# Altium integrated library SMD Switch 3 Pins.IntLib: 1 symbol
Pins are listed as number, name and electrical type; pins without a type are passive.

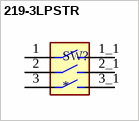
[diagram p0: symbol 219-3LPSTR]

## 219-3LPSTR
designator SW?
Switch DIP ON OFF SPST 3 Flush Slide 0.1A 20VDC Gull Wing 2000Cycles 2.54mm SMD T/R; MF: CTS CORP; MP: 219-3LPSTR; Purchase-URL: https://pricing.snapeda.com/search/part/219-3LPSTR/?ref=eda; Package: None; Value: *; Availability: In Stock; Price: None; SnapEDA_Link: https://www.snapeda.com/parts/219-3LPSTR/CTS+Corporation/view-part/?ref=snap; Check_prices: https://www.snapeda.com/parts/219-3LPSTR/CTS+Corporation/view-part/?ref=eda
footprint SW_219-3LPSTR
pins: 1, 1_1, 2, 2_1, 3, 3_1